# Altium schematic symbol library VT.SchLib: 57 symbols
Pins are listed as number, name and electrical type; pins without a type are passive.

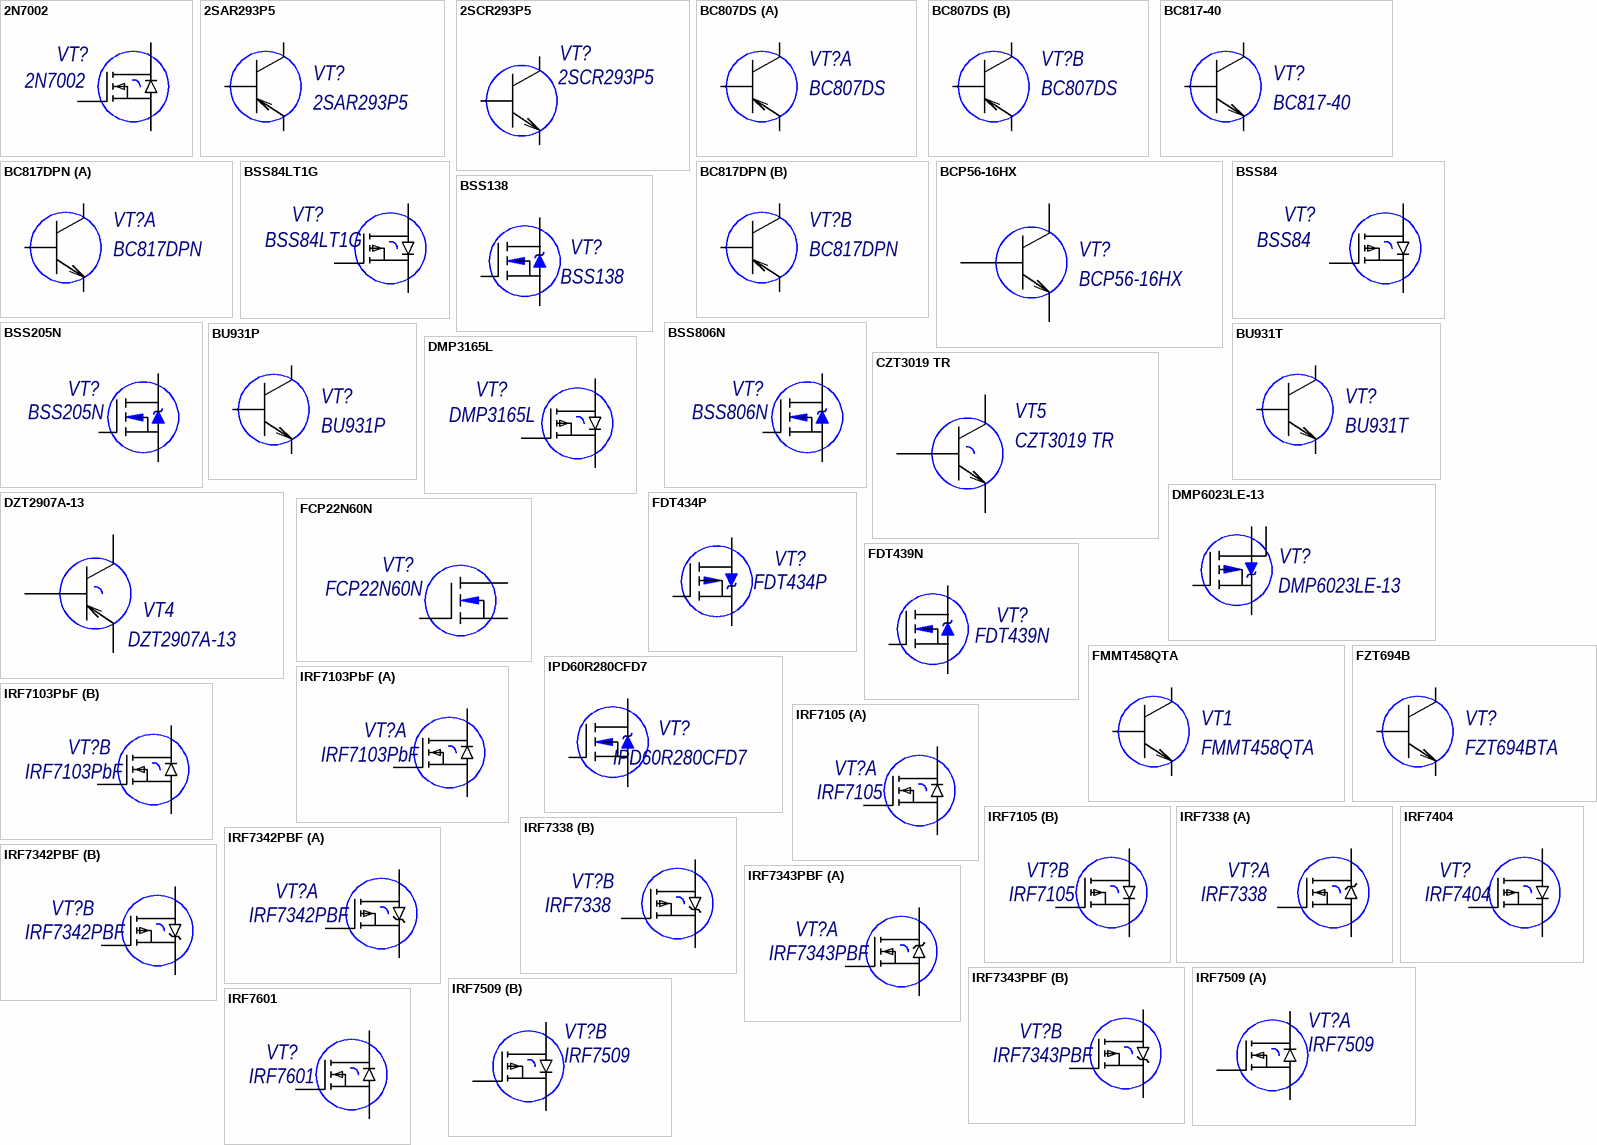
[diagram p0: symbols 2N7002 to IRF7601]

## 2N7002
designator VT?, comment PartNumber: 2N7002  (hidden comment: Транзистор 2N7002 фирма "ON Semiconductor")
N-Channel Enhancement Mode Field Effect Transistor, 60V, 0.4A; GOST: Транзистор 2N7002 фирма "ON Semiconductor"
footprint SOT-23-3 (Dim 3mm*1.4mm H=1.1mm)
pins: 1 G, 2 S, 3 D

## 2SAR293P5
designator VT?, comment PartNumber: 2SAR293P5  (hidden comment: Транзистор 2SAR293P5 фирма "ROHM Semiconductor")
PNP 30V 1A, SOT-89; GOST: Транзистор 2SAR293P5 фирма "ROHM Semiconductor"; Pattern: SOT-89
footprint SOT-89 (4.6x4.25mm H=1.6mm)
pins: 1 B, 2 C, 3 E, 4 C

## 2SCR293P5
designator VT?
NPN 30V 1A, SOT-89; GOST: Транзистор 2SCR293P5 фирма "ROHM Semiconductor"; Package / Case: SOT-89; PartNumber: 2SCR293P5
footprint SOT-89 (4.6x4.25mm H=1.6mm)
pins: 1 B, 2 C, 3 E, 4 C

## BC807DS
designator VT?, comment PartNumber: BC807DS  (hidden comment: Транзистор BC807DS фирма "Nexpreia")
45V 0.5A PNP/PNP general-purpose double transistors in SOT457 (SC-74) plastic package; GOST: Транзистор BC807DS фирма "Nexpreia"
footprint TSOP-6 (case 3х1.5х1.1 step 0.95mm (CASE 318G: SC-74; TSOP6 (SOT457)))
part A pins: 1 E, 2 B, 6 C
part B pins: 3 C, 4 E, 5 B

## BC817-40
designator VT?, comment PartNumber: BC817-40  (hidden comment: Транзистор BC817-40 фирма "Nexperia")
5 V, 500 mA NPN general-purpose transistors SOT-23-3; GOST: Транзистор BC817-40 фирма "Nexperia"; Pattern: SOT-23-3
footprint SOT-23-3 (Dim 3mm*1.4mm H=1.1mm)
pins: 1 B, 2 E, 3 C

## BC817DPN
designator VT?, comment PartNumber: BC817DPN  (hidden comment: Транзистор BC817DPN фирма "Nexpreia")
45V 0.5A NPN/PNP general purpose transistor in SOT457 (SC-74) plastic package; GOST: Транзистор BC817DPN фирма "Nexpreia"
footprint TSOP-6 (case 3х1.5х1.1 step 0.95mm (CASE 318G: SC-74; TSOP6 (SOT457)))
part A pins: 1 E, 2 B, 6 C
part B pins: 3 C, 4 E, 5 B

## BCP56-16HX
designator VT?, comment PartNumber: BCP56-16HX  (hidden comment: Транзистор BCP56-16HX фирма "Nexperia")
Bipolar (BJT) Transistor NPN 80V 1A 100MHz Surface Mount SC-73; GOST: Транзистор BCP56-16HX фирма "Nexperia"
footprint SOT-223 (6.7x3.7mm H=1.8mm)
pins: 1 B, 2 C, 3 E, 4 C

## BSS84
designator VT?, comment PartNumber: BSS84  (hidden comment: Транзистор BSS84 фирма "Fairchild Semiconductor")
P-Channel Enhancement Mode Field Effect Transistor, 50 V, 0.13A; GOST: Транзистор BSS84 фирма "Fairchild Semiconductor"
footprint SOT-23-3 (Dim 3mm*1.4mm H=1.1mm)
pins: 1 G, 1 S1, 2 S2, 2 S, 3 D

## BSS84LT1G
designator VT?, comment PartNumber: BSS84LT1G  (hidden comment: Транзистор BSS84LT1G фирма "ON Semiconductor")
Power MOSFET Single P-Channel SOT-23-50 V, 10 Om; GOST: Транзистор BSS84LT1G фирма "ON Semiconductor"
footprint SOT-23-3 (Dim 3mm*1.4mm H=1.1mm)
pins: 1 G, 2 S, 3 D

## BSS138
designator VT?, comment PartNumber: BSS138  (hidden comment: Транзистор BSS138 фирма "Diodes Incorporated")
N-Channel Logic Level Enhancement Mode Field Effect Transistor; GOST: Транзистор BSS138 фирма "Diodes Incorporated"
footprint SOT-23-3 (Dim 3mm*1.4mm H=1.1mm)
pins: 1 G, 2 S, 3 D

## BSS205N
designator VT?, comment PartNumber: BSS205N  (hidden comment: Транзистор BSS205N фирма "Infineon Technologies")
N-Channel OptiMOS  2 Small-Signal-Transistor; GOST: Транзистор BSS205N фирма "Infineon Technologies"
footprint SOT-23-3 (Dim 3mm*1.4mm H=1.1mm)
pins: 1 G, 2 S, 3 D

## BSS806N
designator VT?
N-Channel OptiMOS  2 Small-Signal-Transistor; GOST: Транзистор BSS806N фирма "Infineon Technologies"; PartNumber: BSS806N
footprint SOT-23-3 (Dim 3mm*1.4mm H=1.1mm)
pins: 1 G, 2 S, 3 D

## BU931P
designator VT?, comment PartNumber: BU931P  (hidden comment: Транзистор BU931P фирма "STMicroelectronics")
Bipolar (BJT) Transistor NPN - Darlington 400V 15A 135W Through Hole TO-247; GOST: Транзистор BU931P фирма "STMicroelectronics"; Pattern: TO-247
footprint TO-247 (horizontal layout) (горизонтальное расположение)
pins: 1 B, 2 C, 3 E, 4 C

## BU931T
designator VT?, comment PartNumber: BU931T  (hidden comment: Транзистор BU931T фирма "STMicroelectronics")
Bipolar (BJT) Transistor NPN - Darlington 400V 10A 125W Through Hole TO-220AB; GOST: Транзистор BU931T фирма "STMicroelectronics"; Pattern: TO-220AB
footprint TO-220AB (horizontal layout) - duplicate (горизонтальное расположение)
pins: 1 B, 2 C, 3 E, 4 C

## CZT3019 TR
designator VT5, comment PartNumber: CZT3019 TR  (hidden comment: Транзистор CZT3019 TR фирма "Central Semiconductor Corp")
NPN 80V 1A, SOT-223, 150 C, SMD; Vce Saturation (Max) @ Ib, Ic: 500mV @ 50mA, 500mA; Current - Collector Cutoff (Max): 10nA (ICBO); DC Current Gain (hFE) (Min) @ Ic, Vce: 100 @ 150mA, 10V; Frequency - Transition: 400MHz; BOM Description: Транзистор CZT3019 TR; Supplier 1: Digi-Key; Supplier Part Number 1: CZT3019 CT-ND; Manufacturer: Central Semiconductor Corp; Category: Discrete Semiconductor Products; Pricing 1: 1=1.33, 10=1.24, 25=1.1204, 100=0.9804, 250=0.86032, 500=0.7603 (USD); RoHS: RoHS Compliant; Packaging: Cut Tape (CT); Transistor Type: NPN; Mounting Type: Surface Mount; Supplier Device Package: SOT-223; ComponentLink1URL: https://www.centralsemi.com/get_document.php?cmp=1&mergetype=pd&mergepath=pd&pdf_id=CZT3019.PDF; ComponentLink1Description: https://www.centralsemi.com/get_document.php?cmp=1&mergetype=pd&mergepath=pd&pdf_id=CZT3019.PDF; Operating Temperature: -65°C ~ 150°C (TJ); Package / Case: TO-261-4, TO-261AA; GOST: Транзистор CZT3019 TR фирма "Central Semiconductor Corp"
footprint SOT-223 (6.7x3.7mm H=1.8mm)
pins: 1 B, 2 K, 3 E, 4 K

## DMP3165L
designator VT?, comment PartNumber: DMP3165L  (hidden comment: Транзистор DMP3165L фирма "Diodes")
P-Channel Enhancement Mode Field Effect Transistor, 30 V, 3A; GOST: Транзистор DMP3165L фирма "Diodes"
footprint SOT-23-3 (Dim 3mm*1.4mm H=1.1mm)
pins: 1 G, 2 S, 3 D

## DMP6023LE-13
designator VT?, comment PartNumber: DMP6023LE-13  (hidden comment: Транзистор DMP6023LE-13 фирма "Diodes Incorporated")
P-Channel 60V 7A (Ta), 18.2A (Tc) 2W (Ta) Surface Mount SOT-223; GOST: Транзистор DMP6023LE-13 фирма "Diodes Incorporated"
footprint SOT-223 (6.7x3.7mm H=1.8mm)
pins: 1 G, 2 D, 3 S, 4 D

## DZT2907A-13
designator VT4, comment PartNumber: DZT2907A-13  (hidden comment: Транзистор DZT2907A-13 фирма "Diodes Incorporated")
PNP 60V 0.6A, SOT-223, 150 C, SMD; Vce Saturation (Max) @ Ib, Ic: 1.6V @ 50mA, 500mA; Current - Collector Cutoff (Max): 10nA (ICBO); DC Current Gain (hFE) (Min) @ Ic, Vce: 100 @ 150mA, 10V; Frequency - Transition: 200MHz; BOM Description: Транзистор DZT2907A-13; Supplier 1: Digi-Key; Supplier Part Number 1: DZT2907ADIDKR-ND; Manufacturer: Diodes Incorporated; Category: Discrete Semiconductor Products; Stock 1: 22351; Pricing 1: 1=0.38, 10=0.31, 100=0.2112, 500=0.1584, 1000=0.1188 (USD); RoHS: RoHS Compliant; Packaging: Digi-Reel®; Transistor Type: PNP; Mounting Type: Surface Mount; Supplier Device Package: SOT-223; ComponentLink1URL: https://www.diodes.com/assets/Datasheets/ds30921.pdf; ComponentLink1Description: https://www.diodes.com/assets/Datasheets/ds30921.pdf; Part Status: Active; Operating Temperature: -55°C ~ 150°C (TJ); Package / Case: TO-261-4, TO-261AA; Base Part Number: DZT2907A; GOST: Транзистор DZT2907A-13 фирма "Diodes Incorporated"
footprint SOT-223 (6.7x3.7mm H=1.8mm)
pins: 1 B, 2 K, 3 E, 4 K

## FCP22N60N
designator VT?
N-Channel SupreMOS® MOSFET 600 V, 22 A, 165 mΩ; GOST: Транзистор FCP22N60N фирма "ON Semiconductor"; PartNumber: FCP22N60N
pins: 4 hidden, D, G, S

## FDT434P
designator VT?, comment PartNumber: FDT434P  (hidden comment: Транзистор FDT434P фирма "On Semiconductor")
20V, 6A, 3 Wt, SOT-223, P-Channel 2.5V Specified PowerTrench MOSFET; GOST: Транзистор FDT434P фирма "On Semiconductor"
footprint SOT-223 (6.7x3.7mm H=1.8mm)
pins: 1 G, 2 D, 3 S, 4 D

## FDT439N
designator VT?, comment PartNumber: FDT439N  (hidden comment: Транзистор FDT439N фирма "ON Semiconductor")
30V, 6.3A, 3 Wt, SOT-223, N-Channel 2.5V Specifield Enhancement Mode Field Effect Transistor; GOST: Транзистор FDT439N фирма "ON Semiconductor"
footprint SOT-223 (6.7x3.7mm H=1.8mm)
pins: 1 G, 2 D, 3 S, 4 D

## FMMT458QTA
designator VT1, comment PartNumber: FMMT458QTA  (hidden comment: Транзистор FMMT458QTA фирма "Diodes Incorporated")
TRANS NPN 400V 0.225A SOT23 150 C; Pattern: SOT-23-3; GOST: Транзистор FMMT458QTA фирма "Diodes Incorporated"
footprint SOT-23-3 (Dim 3mm*1.4mm H=1.1mm)
pins: 1 B, 2 E, 3 C

## FZT694B
designator VT?, comment PartNumber: FZT694BTA  (hidden comment: Транзистор FZT694BTA фирма "Diodes Incorporated")
Bipolar (BJT) Transistor NPN 120V 1A 130MHz 2W Surface Mount SOT-223; GOST: Транзистор FZT694BTA фирма "Diodes Incorporated"; Pattern: SOT-223
footprint SOT-223 (6.7x3.7mm H=1.8mm)
pins: 1 B, 2 C, 3 E, 4 C

## IPD60R280CFD7
designator VT?, comment PartNumber: IPD60R280CFD7  (hidden comment: Транзистор IPD60R280CFD7 фирма "Infineon")
MOSFET N-CH 600V 10A DPAK; GOST: Транзистор IPD60R280CFD7 фирма "Infineon"
footprint D-PAK ((TO-252AA) Dim 6.8mm*10.4mm H=2.4mm)
pins: 1 G, 2 S, 3 D

## IRF7103PbF
designator VT?, comment PartNumber: IRF7103PbF  (hidden comment: Транзистор IRF7103PbF фирма "International Rectifier")
MOSFET 2N-CH 50V 3A 8-SOIC; GOST: Транзистор IRF7103PbF фирма "International Rectifier"
footprint SO-8 (5x4mm H=1.75mm)
part A pins: 1 S, 2 G, 7 D1, 8 D2
part B pins: 3 S, 4 G, 5 D1, 6 D2

## IRF7105
designator VT?
GOST: Транзистор; PartNumber: IRF7105
part A pins: 1 S, 2 G, 7 D1, 8 D2
part B pins: 3 S, 4 G, 5 D1, 6 D2

## IRF7338
designator VT?, comment PartNumber: IRF7338  (hidden comment: Транзистор IRF7338 фирма "International Rectifier")
HEXFET® Power MOSFET, N and P channel; GOST: Транзистор IRF7338 фирма "International Rectifier"
footprint SO-8 (5x4mm H=1.75mm)
part A pins: 1 S, 2 G, 7 D2, 8 D1
part B pins: 3 S, 4 G, 5 D1, 6 D2

## IRF7342PBF
designator VT?, comment PartNumber: IRF7342PBF  (hidden comment: Транзистор IRF7342PBF фирма "International Rectifier")
Dual P Channel MOSFET, 55V 2.7A, 150C, SO8; GOST: Транзистор IRF7342PBF фирма "International Rectifier"
footprint SO-8 (5x4mm H=1.75mm)
part A pins: 1 S, 2 G, 7 D2, 8 D1
part B pins: 3 S, 4 G, 5 D1, 6 D2

## IRF7343PBF
designator VT?, comment PartNumber: IRF7343PBF  (hidden comment: Транзистор IRF7343PBF фирма "International Rectifier")
N Channel + P Channel MOSFET, 50V 4.7A, 150C, SO8; GOST: Транзистор IRF7343PBF фирма "International Rectifier"
footprint SO-8 (5x4mm H=1.75mm)
part A pins: 1 S, 2 G, 7 D1, 8 D2
part B pins: 3 S, 4 G, 5 D1, 6 D2

## IRF7404
designator VT?, comment Транзистор IRF7404 фирма "International Rectifier"  (value not drawn)
IRF7404; GOST: Транзистор IRF7404 фирма "International Rectifier"; PartNumber: IRF7404
footprint SO-8 (5x4mm H=1.75mm)
pins: 1 S1, 2 S2, 3 S3, 4 G, 5 D1, 6 D2, 7 D3, 8 D4

## IRF7509
designator VT?, comment Транзистор IRF7509 фирма "International Rectifier"  (value not drawn)
IRF7509; GOST: Транзистор IRF7509 фирма "International Rectifier"; PartNumber: IRF7509
footprint MSOP-8 (RM-8)
part A pins: 1 S, 2 G, 7 D1, 8 D2
part B pins: 3 S, 4 G, 5 D1, 6 D2

## IRF7601
designator VT?, comment Транзистор IRF7601 фирма "International Rectifier"  (value not drawn)
IRF7601; GOST: Транзистор IRF7601 фирма "International Rectifier"; PartNumber: IRF7601
footprint MSOP-8 (RM-8)
pins: 1 S1, 2 S2, 3 S3, 4 G, 5 D1, 6 D2, 7 D3, 8 D4

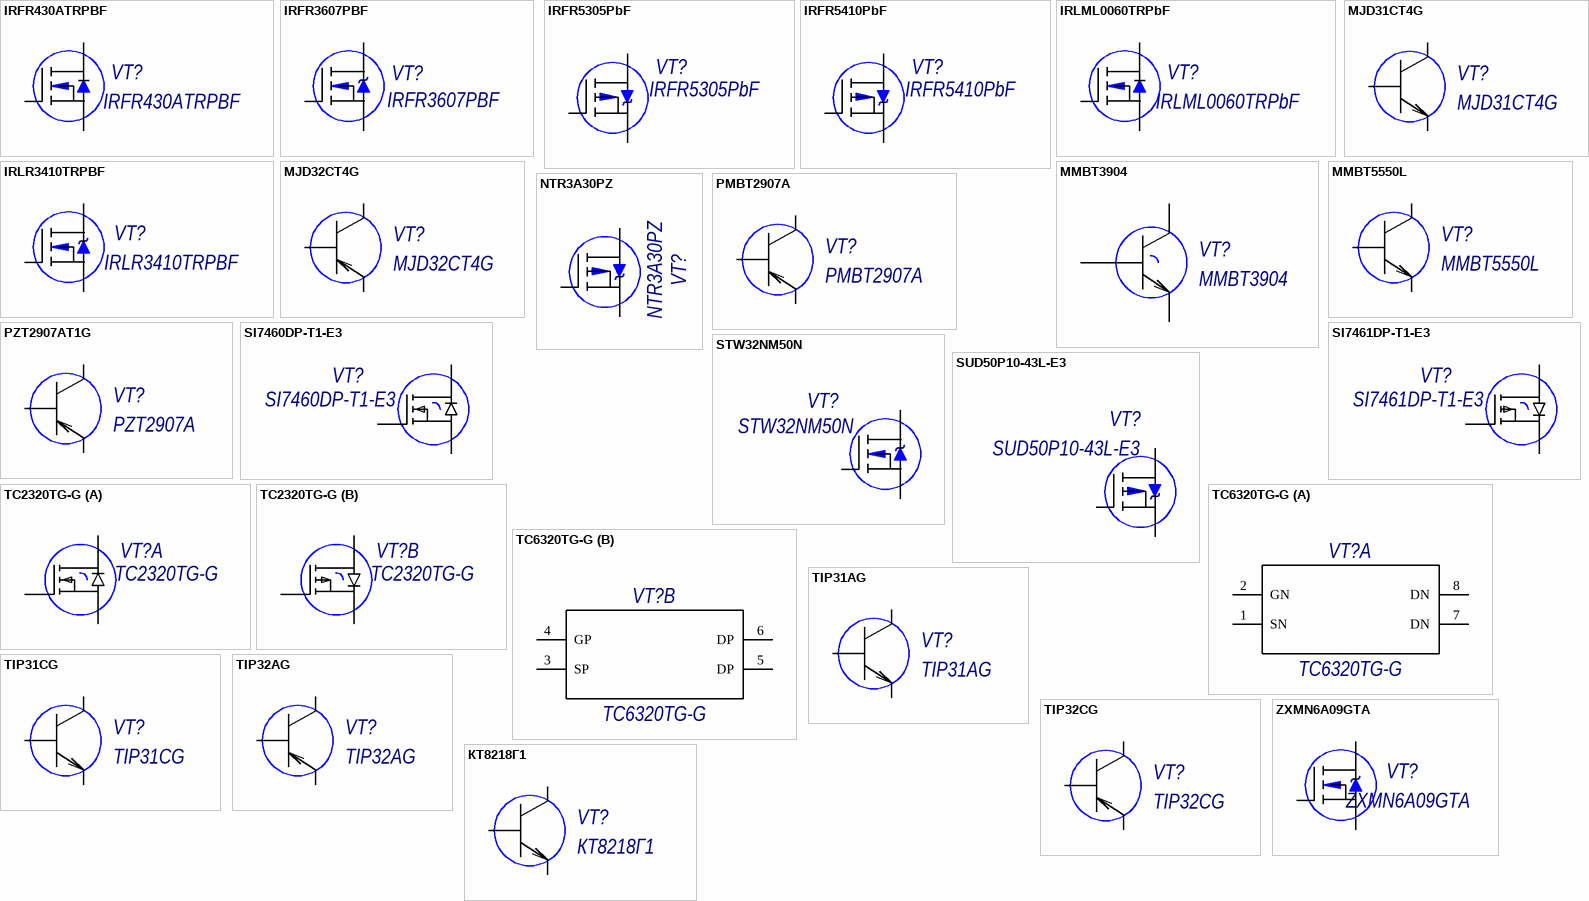
[diagram p1: symbols IRFR430ATRPBF to КТ8218Г1]

## IRFR430ATRPBF
designator VT?, comment PartNumber: IRFR430ATRPBF  (hidden comment: Транзистор IRFR430ATRPBF фирма "Vishay")
Power MOSFET N-CH 500V 5A DPAK; GOST: Транзистор IRFR430ATRPBF фирма "Vishay"
footprint D-PAK ((TO-252AA) Dim 6.8mm*10.4mm H=2.4mm)
pins: 1 G, 2 S, 3 D

## IRFR3607PBF
designator VT?, comment PartNumber: IRFR3607PBF  (hidden comment: Транзистор IRFR3607PBF фирма "IInfineon Technologies")
MOSFET N-CH 75V 56A DPAK; GOST: Транзистор IRFR3607PBF фирма "IInfineon Technologies"
footprint D-PAK ((TO-252AA) Dim 6.8mm*10.4mm H=2.4mm)
pins: 1 G, 2 S, 3 D

## IRFR5305PbF
designator VT?, comment PartNumber: IRFR5305PbF  (hidden comment: Транзистор IRFR5305PbF фирма "International Rectifier")
MOSFET P Channel 55V, 31A,  D-Pak; GOST: Транзистор IRFR5305PbF фирма "International Rectifier"
footprint D-PAK ((TO-252AA) Dim 6.8mm*10.4mm H=2.4mm)
pins: 1 G, 2 S, 3 D

## IRFR5410PbF
designator VT?, comment PartNumber: IRFR5410PbF  (hidden comment: Транзистор IRFR5410PbF фирма "International Rectifier")
MOSFET P Channel 100V, 13A,  D-Pak; GOST: Транзистор IRFR5410PbF фирма "International Rectifier"
footprint D-PAK ((TO-252AA) Dim 6.8mm*10.4mm H=2.4mm)
pins: 1 G, 2 S, 3 D

## IRLML0060TRPbF
designator VT?, comment PartNumber: IRLML0060TRPbF  (hidden comment: Транзистор IRLML0060TRPbF фирма "International Rectifier")
HEXFET Power MOSFET N-CH 60V 2.1A SOT-23-3; GOST: Транзистор IRLML0060TRPbF фирма "International Rectifier"
footprint SOT-23-3 (Dim 3mm*1.4mm H=1.1mm)
pins: 1 G, 2 S, 3 D

## IRLR3410TRPBF
designator VT?, comment PartNumber: IRLR3410TRPBF  (hidden comment: Транзистор IRLR3410TRPBF фирма "Infineon Technologies")
MOSFET N-CH 100V 17A DPAK; GOST: Транзистор IRLR3410TRPBF фирма "Infineon Technologies"
footprint D-PAK ((TO-252AA) Dim 6.8mm*10.4mm H=2.4mm)
pins: 1 G, 2 S, 3 D

## MJD31CT4G
designator VT?, comment PartNumber: MJD31CT4G  (hidden comment: Транзистор MJD31CT4G фирма "ON Semiconductor")
Bipolar (BJT) Transistor NPN 100V 3A 3MHz 1.56W Surface Mount DPAK; GOST: Транзистор MJD31CT4G фирма "ON Semiconductor"; Pattern: DPAK
footprint D-PAK ((TO-252AA) Dim 6.8mm*10.4mm H=2.4mm)
pins: 1 B, 2 E, 3 C

## MJD32CT4G
designator VT?, comment PartNumber: MJD32CT4G  (hidden comment: Транзистор MJD32CT4G фирма "ON Semiconductor")
Bipolar (BJT) Transistor PNP 100V 3A 3MHz 1.56W Surface Mount DPAK; GOST: Транзистор MJD32CT4G фирма "ON Semiconductor"; Pattern: DPAK
footprint D-PAK ((TO-252AA) Dim 6.8mm*10.4mm H=2.4mm)
pins: 1 B, 2 E, 3 C

## MMBT3904
designator VT?, comment PartNumber: MMBT3904  (hidden comment: Транзистор MMBT3904 фирма "Fairchild")
NPN 40В 0.2А [SOT-23-3]; GOST: Транзистор MMBT3904 фирма "Fairchild"
footprint SOT-23-3 (Dim 3mm*1.4mm H=1.1mm)
pins: 1 B, 2 E, 3 C

## MMBT5550L
designator VT?, comment PartNumber: MMBT5550L  (hidden comment: Транзистор MMBT5550L фирма "ON Semiconductor")
Bipolar (BJT) Transistor NPN 140V 600mA 225mW Surface Mount SOT-23-3 (TO-236); GOST: Транзистор MMBT5550L фирма "ON Semiconductor"; Pattern: SOT-23-3
footprint SOT-23-3 (Dim 3mm*1.4mm H=1.1mm)
pins: 1 B, 2 E, 3 C

## NTR3A30PZ
designator VT?, comment PartNumber: NTR3A30PZ  (hidden comment: Транзистор NTR3A30PZ фирма "On Semiconductor")
P-Channel MOSFET; GOST: Транзистор NTR3A30PZ фирма "On Semiconductor"
footprint SOT-23-3 (Dim 3mm*1.4mm H=1.1mm)
pins: 1 G, 2 S, 3 D

## PMBT2907A
designator VT?, comment PartNumber: PMBT2907A  (hidden comment: Транзистор PMBT2907A фирма "NXP Semiconductors")
Bipolar (BJT) Transistor PNP 60V 600mA 200MHz 1.5W Surface Mount SOT-223; Pattern: SOT-23-3; GOST: Транзистор PMBT2907A фирма "NXP Semiconductors"
footprint SOT-23-3 (Dim 3mm*1.4mm H=1.1mm)
pins: 1 B, 2 E, 3 C

## PZT2907AT1G
designator VT?, comment PartNumber: PZT2907A  (hidden comment: Транзистор PZT2907AT1G фирма "ON Semiconductor")
Bipolar (BJT) Transistor PNP 60V 600mA 200MHz 1.5W Surface Mount SOT-223; GOST: Транзистор PZT2907AT1G фирма "ON Semiconductor"; Pattern: SOT-223
footprint SOT-223 (6.7x3.7mm H=1.8mm)
pins: 1 B, 2 C, 3 E, 4 C

## SI7460DP-T1-E3
designator VT?, comment PartNumber: SI7460DP-T1-E3  (hidden comment: Транзистор SI7460DP-T1-E3 фирма "Vishay")
N-Channel 60-V (D-S) Fast Switching MOSFET; GOST: Транзистор SI7460DP-T1-E3 фирма "Vishay"
footprint PowerPAK_SO8 (6x5mm H=1.45mm)
pins: 1 S1, 1 S, 2 S2, 2 S, 3 S, 4 G, 5 D, 6 D, 7 D, 8 D, 9 D

## SI7461DP-T1-E3
designator VT?, comment PartNumber: SI7461DP-T1-E3  (hidden comment: Транзистор SI7461DP-T1-E3 фирма "Vishay")
P-Channel 60 V (D-S) MOSFET; GOST: Транзистор SI7461DP-T1-E3 фирма "Vishay"
footprint PowerPAK_SO8 (6x5mm H=1.45mm)
pins: 1 S1, 1 S, 2 S2, 2 S, 3 S, 4 G, 5 D, 6 D, 7 D, 8 D, 9 D

## STW32NM50N
designator VT?, comment Транзистор  (value not drawn)
STW32NM50N; GOST: Транзистор; PartNumber: STW32NM50N
pins: 1 G, 2 D, 3 S

## SUD50P10-43L-E3
designator VT?, comment PartNumber: SUD50P10-43L-E3  (hidden comment: Транзистор SUD50P10-43L-E3 фирма "Vishay")
100V, 31A, 95 Wt, DPAK,175C, P-Channel 20V PowerTrench MOSFET; GOST: Транзистор SUD50P10-43L-E3 фирма "Vishay"
footprint D-PAK ((TO-252AA) Dim 6.8mm*10.4mm H=2.4mm)
pins: 1 G, 2 S, 3 D

## TC2320TG-G
designator VT?, comment PartNumber: TC2320TG-G  (hidden comment: Транзистор TC2320TG-G фирма "Supertex inc.")
N- and P-Channel Enhancement-Mode Dual MOSFET; Pattern: 8-Lead SOIC (Narrow Body) Package Outline (TG)  4.90x3.90mm body, 1.75mm height (max), 1.27mm pitch; GOST: Транзистор TC2320TG-G фирма "Supertex inc."
footprint SO-8 (5x4mm H=1.75mm)
part A pins: 1 SN, 2 GN, 7 DN1, 8 DN2
part B pins: 3 SP, 4 GP, 5 DP1, 6 DP2

## TC6320TG-G
designator VT?, comment PartNumber: TC6320TG-G  (hidden comment: Транзистор TC6320TG-G фирма "Supertex inc.")
N- and P-Channel  Enhancement-Mode MOSFET Pair; Pattern: 8-Lead SOIC (Narrow Body) Package Outline (TG)  4.90x3.90mm body, 1.75mm height (max), 1.27mm pitch; GOST: Транзистор TC6320TG-G фирма "Supertex inc."
footprint SO-8 (5x4mm H=1.75mm)
part A pins: 1 SN, 2 GN, 7 DN, 8 DN
part B pins: 3 SP, 4 GP, 5 DP, 6 DP

## TIP31AG
designator VT?, comment PartNumber: TIP31AG  (hidden comment: Транзистор TIP31AG фирма "ON Semiconductor")
Bipolar (BJT) Transistor NPN 60V 3A 3MHz 2W Through Hole TO-220AB; Pattern: TO-220-3; GOST: Транзистор TIP31AG фирма "ON Semiconductor"
footprint TO-220AB (vertical layout) (вертикальное расположение H=19.5mm max)
footprint TO-220AB (vertical layout) with SK 525 30 ST (вертикальное расположение H=28mm max с радиатором SK 525 30 ST)
footprint TO-220AB (horizontal layout) (горизонтальное расположение)
pins: 1 B, 2 C, 3 E

## TIP31CG
designator VT?, comment PartNumber: TIP31CG  (hidden comment: Транзистор TIP31CG фирма "ON Semiconductor")
Bipolar (BJT) Transistor NPN 100V 3A 3MHz 2W Through Hole TO-220AB; Pattern: TO-220-3; GOST: Транзистор TIP31CG фирма "ON Semiconductor"
footprint TO-220AB (vertical layout) (вертикальное расположение H=19.5mm max)
footprint TO-220AB (vertical layout) with SK 525 30 ST (вертикальное расположение H=28mm max с радиатором SK 525 30 ST)
footprint TO-220AB (horizontal layout) (горизонтальное расположение)
pins: 1 B, 2 C, 3 E

## TIP32AG
designator VT?, comment PartNumber: TIP32AG  (hidden comment: Транзистор TIP32AG фирма "ON Semiconductor")
Bipolar (BJT) Transistor PNP 60V 3A 3MHz 2W Through Hole TO-220AB; Pattern: TO-220-3; GOST: Транзистор TIP32AG фирма "ON Semiconductor"
footprint TO-220AB (horizontal layout) (горизонтальное расположение)
footprint TO-220AB (vertical layout) (вертикальное расположение H=19.5mm max)
footprint TO-220AB (vertical layout) with SK 525 30 ST (вертикальное расположение H=28mm max с радиатором SK 525 30 ST)
pins: 1 B, 2 C, 3 E

## TIP32CG
designator VT?, comment PartNumber: TIP32CG  (hidden comment: Транзистор TIP32CG фирма "ON Semiconductor")
Bipolar (BJT) Transistor PNP 100V 3A 3MHz 2W Through Hole TO-220AB; Pattern: TO-220-3; GOST: Транзистор TIP32CG фирма "ON Semiconductor"
footprint TO-220AB (horizontal layout) (горизонтальное расположение)
footprint TO-220AB (vertical layout) (вертикальное расположение H=19.5mm max)
footprint TO-220AB (vertical layout) with SK 525 30 ST (вертикальное расположение H=28mm max с радиатором SK 525 30 ST)
pins: 1 B, 2 C, 3 E

## ZXMN6A09GTA
designator VT?, comment PartNumber: ZXMN6A09GTA  (hidden comment: Транзистор ZXMN6A09GTA фирма "Diodes Incorporated")
MOSFET N-CH 60V 6.9A SOT223; GOST: Транзистор ZXMN6A09GTA фирма "Diodes Incorporated"
footprint SOT-223 (6.7x3.7mm H=1.8mm)
pins: 1 G, 2 D, 3 S, 4 D

## КТ8218Г1
designator VT?, comment PartNumber: КТ8218Г1  (hidden comment: Транзистор КТ8218Г1 фирма "АО «ГРУППА КРЕМНИЙ ЭЛ»")
КТ8218Г1 (MJD112) (2013-16г), Транзистор NPN, 4А, 100В, h21e=750…15000 [КТ-89 / TO-252]; Pattern: DPAK; GOST: Транзистор КТ8218Г1 фирма "АО «ГРУППА КРЕМНИЙ ЭЛ»"
footprint D-PAK ((TO-252AA) Dim 6.8mm*10.4mm H=2.4mm)
pins: 1 B, 2 E, 3 C